# Altium schematic symbol library 16x2 LCD.SchLib: 1 symbol
Pins are listed as number, name and electrical type; pins without a type are passive.

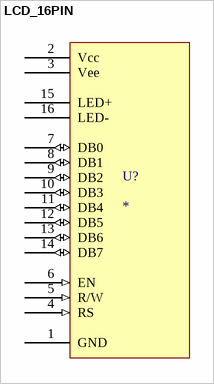
[diagram p0: symbol LCD_16PIN]

## LCD_16PIN
designator U?
footprint LCD_16pin
pins: 1 GND (power), 2 Vcc (power), 3 Vee, 4 RS (in), 5 R/W (in), 6 EN (in), 7 DB0 (io), 8 DB1 (io), 9 DB2 (io), 10 DB3 (io), 11 DB4 (io), 12 DB5 (io), 13 DB6 (io), 14 DB7 (io), 15 LED+ (power), 16 LED- (power)